# Altium schematic symbol library ndh-altium.SchLib: 12 symbols
Pins are listed as number, name and electrical type; pins without a type are passive.

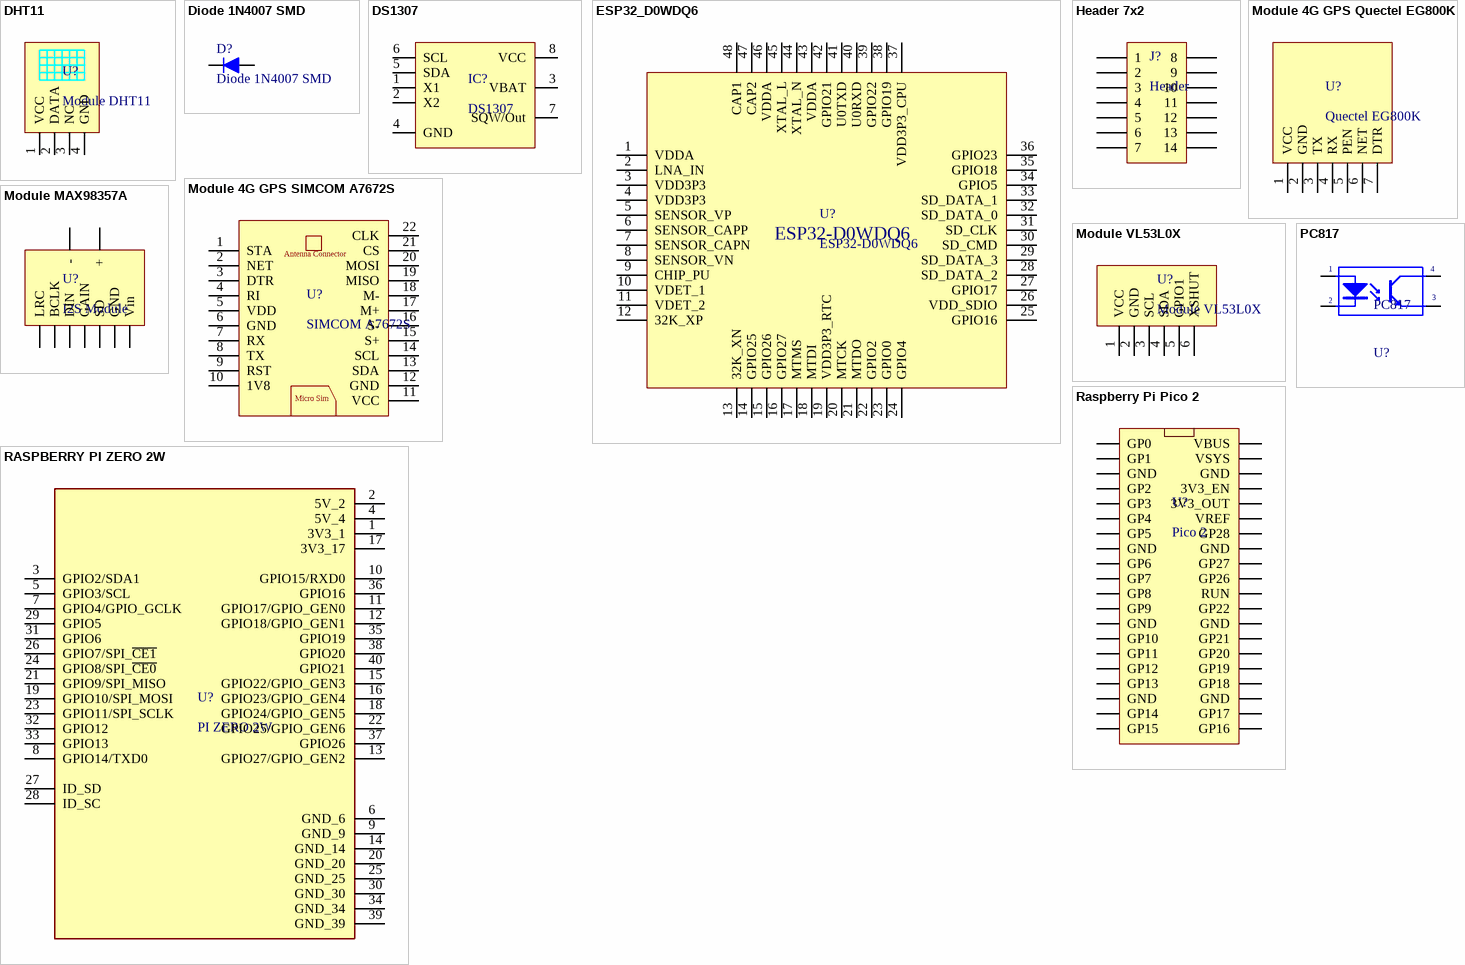
[diagram p0: symbols DHT11 to RASPBERRY PI ZERO 2W]

## DHT11
designator U?, comment Module DHT11
footprint DHT11 (Mdule DHT11)
pins: 1 VCC, 2 DATA, 3 NC, 4 GND

## Diode 1N4007 SMD
designator D?
1N4007 SMD
footprint Diode 1N4007 SMD
pins: 1 K, 2 A

## DS1307
designator IC?
DS1307RTC
footprint DS1307 (DS1307RTC)
pins: 1 X1, 2 X2, 3 VBAT, 4 GND, 5 SDA, 6 SCL, 7 SQW/Out, 8 VCC

## ESP32_D0WDQ6
designator U?, comment ESP32-D0WDQ6
ESP32_D0WDQ6
footprint ESP32-D0WDQ6
pins: 1 VDDA, 2 LNA_IN, 3 VDD3P3, 4 VDD3P3, 5 SENSOR_VP, 6 SENSOR_CAPP, 7 SENSOR_CAPN, 8 SENSOR_VN, 9 CHIP_PU, 10 VDET_1, 11 VDET_2, 12 32K_XP, 13 32K_XN, 14 GPIO25, 15 GPIO26, 16 GPIO27, 17 MTMS, 18 MTDI, 19 VDD3P3_RTC, 20 MTCK, 21 MTDO, 22 GPIO2, 23 GPIO0, 24 GPIO4, 25 GPIO16, 26 VDD_SDIO, 27 GPIO17, 28 SD_DATA_2, 29 SD_DATA_3, 30 SD_CMD, 31 SD_CLK, 32 SD_DATA_0, 33 SD_DATA_1, 34 GPIO5, 35 GPIO18, 36 GPIO23, 37 VDD3P3_CPU, 38 GPIO19, 39 GPIO22, 40 U0RXD, 41 U0TXD, 42 GPIO21, 43 VDDA, 44 XTAL_N, 45 XTAL_L, 46 VDDA, 47 CAP2, 48 CAP1

## Header 7x2
designator J?, comment Header
footprint Header 7x2 (Header 7x2 Connector)
pins: 1, 2, 3, 4, 5, 6, 7, 8, 9, 10, 11, 12, 13, 14

## Module 4G GPS Quectel EG800K
designator U?, comment Quectel EG800K
Module 4G GPS Quectel EG800K
footprint Module 4G GPS Quectel EG800K
pins: 1 VCC, 2 GND, 3 TX, 4 RX, 5 PEN, 6 NET, 7 DTR

## Module 4G GPS SIMCOM A7672S
designator U?, comment SIMCOM A7672S
Module 4G GPS SIMCOM A7672S
footprint Module 4G A7672S
pins: 1 STA, 2 NET, 3 DTR, 4 RI, 5 VDD, 6 GND, 7 RX, 8 TX, 9 RST, 10 1V8, 11 VCC, 12 GND, 13 SDA, 14 SCL, 15 S+, 16 S-, 17 M+, 18 M-, 19 MISO, 20 MOSI, 21 CS, 22 CLK
text: Antenna Connector; Micro Sim

## Module MAX98357A
designator U?, comment I2S Module
Module MAX98357A I2S
footprint Module MAX98357A
pins: 1 LRC, 2 BCLK, 3 DIN, 4 GAIN, 5 SD, 6 GND, 7 Vin, 8 +, 9 -

## Module VL53L0X
designator U?
footprint Module VL53L0X
pins: 1 VCC, 2 GND, 3 SCL, 4 SDA, 5 GPIO1, 6 XSHUT

## PC817
designator U?
Single Opto; Value: PC817
footprint PC817
footprint PC817 SMD
pins: 1 A "Anode", 2 K "Cathode", 3 E "Emitter", 4 C "Collector"

## Raspberry Pi Pico 2
designator U?, comment Pico 2
Raspberry Pi Pico 2
footprint RASPBERRY_PI_PICO
footprint RASPBERRY_PI_PICO_SMD
pins: 1 GP0, 2 GP1, 3 GND, 4 GP2, 5 GP3, 6 GP4, 7 GP5, 8 GND, 9 GP6, 10 GP7, 11 GP8, 12 GP9, 13 GND, 14 GP10, 15 GP11, 16 GP12, 17 GP13, 18 GND, 19 GP14, 20 GP15, 21 GP16, 22 GP17, 23 GND, 24 GP18, 25 GP19, 26 GP20, 27 GP21, 28 GND, 29 GP22, 30 RUN, 31 GP26, 32 GP27, 33 GND, 34 GP28, 35 VREF, 36 3V3_OUT, 37 3V3_EN, 38 GND, 39 VSYS, 40 VBUS

## RASPBERRY PI ZERO 2W
designator U?, comment PI ZERO 2W
RASPBERRY PI ZERO 2W; SnapEDA_Link: https://www.snapeda.com/parts/RASPBERRY%20PI%20ZERO%202%20W/Raspberry+Pi/view-part/?ref=snap; Package: None; Value: *; MF: Raspberry Pi; MP: RASPBERRY PI ZERO 2 W; Check_prices: https://www.snapeda.com/parts/RASPBERRY%20PI%20ZERO%202%20W/Raspberry+Pi/view-part/?ref=eda
footprint MODULE_RASPBERRY_PI_ZERO_2_W
footprint RASPBERRY PI ZERO 2W
pins: 1 3V3_1, 2 5V_2, 3 GPIO2/SDA1, 4 5V_4, 5 GPIO3/SCL, 6 GND_6, 7 GPIO4/GPIO_GCLK, 8 GPIO14/TXD0, 9 GND_9, 10 GPIO15/RXD0, 11 GPIO17/GPIO_GEN0, 12 GPIO18/GPIO_GEN1, 13 GPIO27/GPIO_GEN2, 14 GND_14, 15 GPIO22/GPIO_GEN3, 16 GPIO23/GPIO_GEN4, 17 3V3_17, 18 GPIO24/GPIO_GEN5, 19 GPIO10/SPI_MOSI, 20 GND_20, 21 GPIO9/SPI_MISO, 22 GPIO25/GPIO_GEN6, 23 GPIO11/SPI_SCLK, 24 GPIO8/SPI_~{CE0}, 25 GND_25, 26 GPIO7/SPI_~{CE1}, 27 ID_SD, 28 ID_SC, 29 GPIO5, 30 GND_30, 31 GPIO6, 32 GPIO12, 33 GPIO13, 34 GND_34, 35 GPIO19, 36 GPIO16, 37 GPIO26, 38 GPIO20, 39 GND_39, 40 GPIO21